# Altium footprint library DO-214AB.PcbLib: 1 footprints
Each footprint in its own frame and in the unit in brackets; x right, y up, seen from the top. Pads: shape width x height; smd on the part's side, far side on the other; paste and mask are expansions set on the pad; w line width, h text height; cw(c..) or ccw(c..) is an arc to the next point about the centre after c.
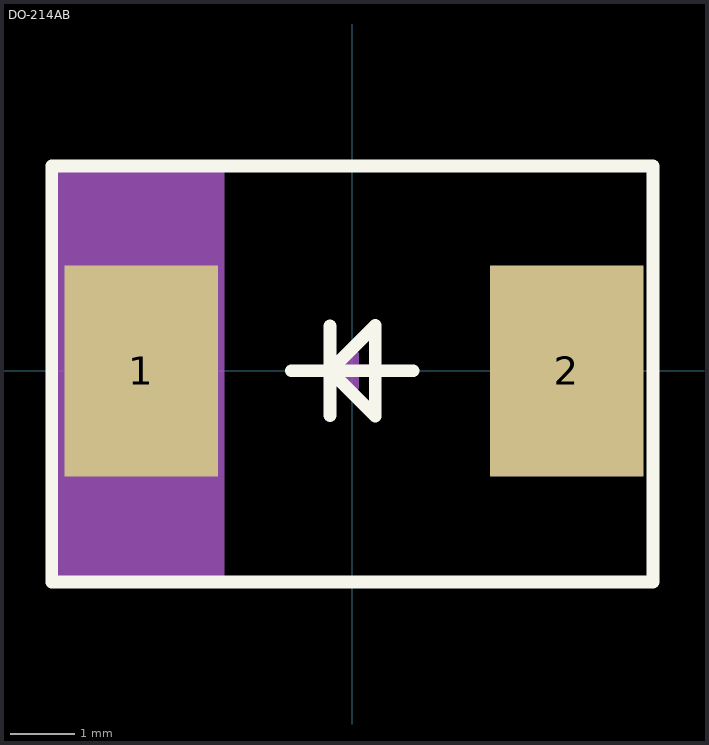
[diagram p0: the footprint, top view; thin cyan lines are the x and y axes]

## DO-214AB [mm]
height 0.9
pads (2):
  rect 2.4x3.3 smd: 1(-3.3,0) 2(3.35,0)
Top Overlay:
  lines w0.2: -0.95,0 -0.35,0 ; -0.35,-0.7 -0.35,0 ; -0.35,0.7 -0.35,0 ; 0.95,0 -0.35,0 ; -0.35,0 0.357,0.707 0.357,-0.707 -0.35,0 ; -4.7,-3.3 4.7,-3.3 4.7,3.2 -4.7,3.2 -4.7,-3.3
Top Assembly:
  rectangle: -4.7,-3.3 -2,3.2
  lines w0.1: -4.7,-3.3 4.7,-3.3 4.7,3.2 -4.7,3.2 -4.7,-3.3
  lines w0.2: -0.25,0 0.25,0 ; 0,-0.25 0,0.25
  text "'.Designator'" at -0.95,-0.35 h0.7
3D body "User Library-DO-214AB(SMC).STEP": height 2.67, standoff 0.03, extent -4.064,-3.15 4.064,3.15